# Altium schematic symbol library Schlib1.SchLib: 7 symbols
Pins are listed as number, name and electrical type; pins without a type are passive.

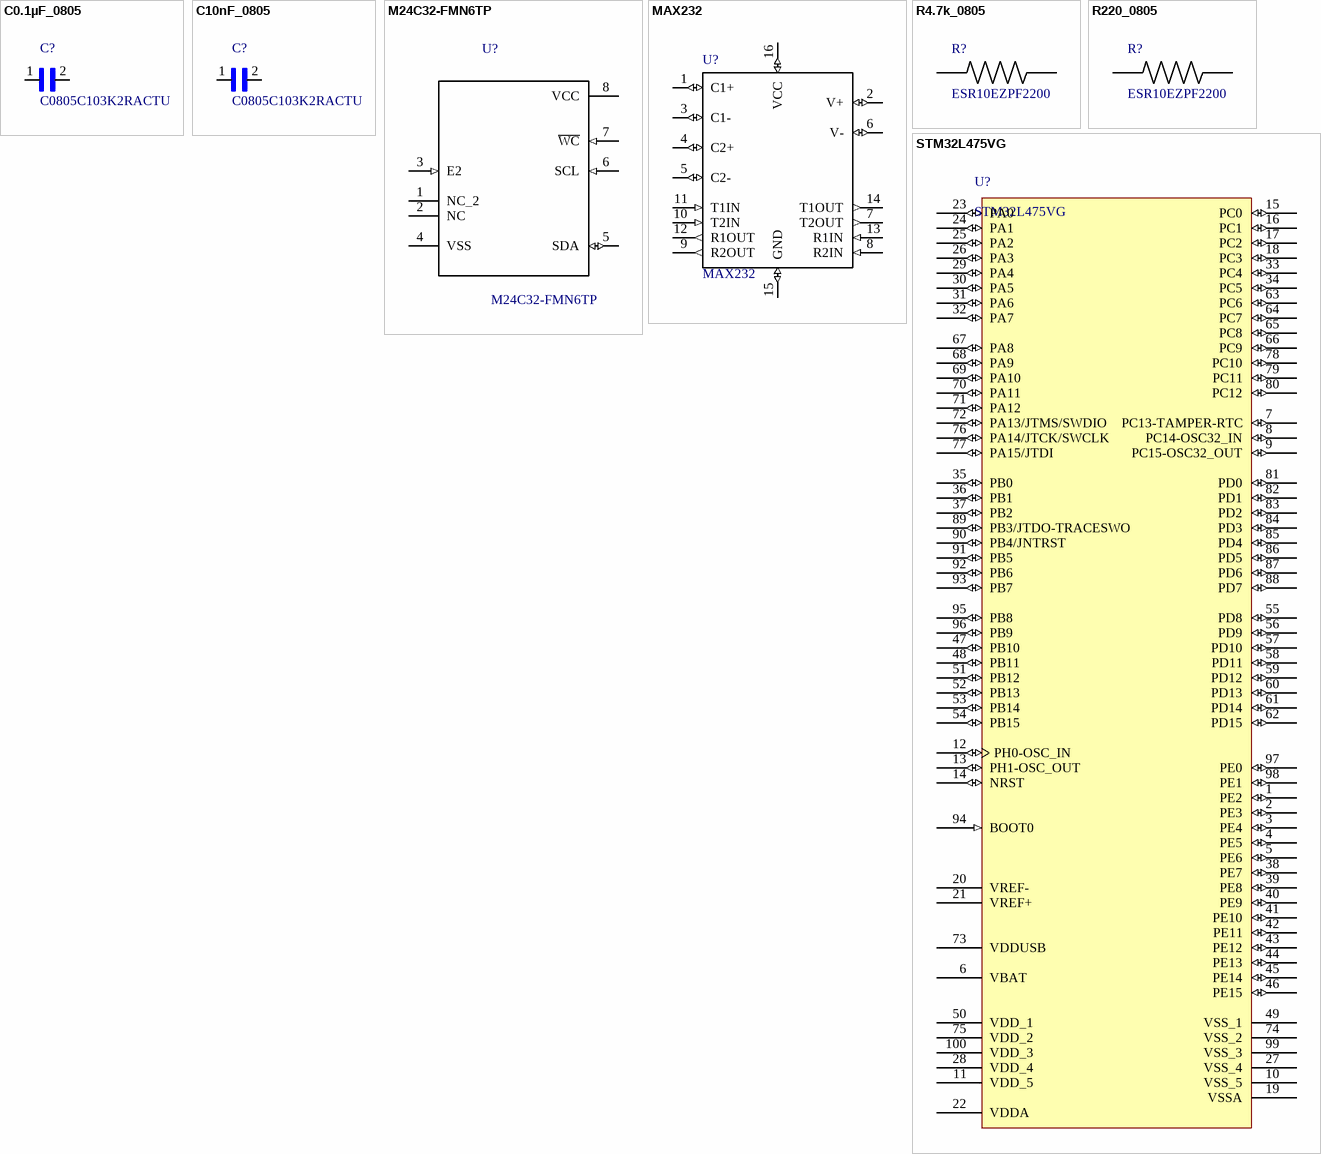
[diagram p0: symbols C0.1µF_0805 to STM32L475VG]

## C0.1µF_0805
designator C?, comment C0805C103K2RACTU
0805 C 10nF Ceramic Multilayer Capacitor, 200 VDC, +125degC, X7R Dielec, +/-10%; MF: KEMET; Digi-Key_Part_Number: 399-7993-1-ND; SnapEDA_Link: https://www.snapeda.com/parts/C0805C103K2RACTU/KEMET/view-part/?ref=snap; Package: 2012 KEMET; MP: C0805C103K2RACTU; Digi-Key_Purchase_URL: https://www.digikey.com/product-detail/en/kemet/C0805C103K2RACTU/399-7993-1-ND/3471716?utm_source=snapeda&utm_medium=aggregator&utm_campaign=symbol; Value: *
footprint *CAPC2012X88N
footprint *CAPC2012X88N
pins: 1, 2

## C10nF_0805
designator C?, comment C0805C103K2RACTU
0805 C 10nF Ceramic Multilayer Capacitor, 200 VDC, +125degC, X7R Dielec, +/-10%; MF: KEMET; Digi-Key_Part_Number: 399-7993-1-ND; SnapEDA_Link: https://www.snapeda.com/parts/C0805C103K2RACTU/KEMET/view-part/?ref=snap; Package: 2012 KEMET; MP: C0805C103K2RACTU; Digi-Key_Purchase_URL: https://www.digikey.com/product-detail/en/kemet/C0805C103K2RACTU/399-7993-1-ND/3471716?utm_source=snapeda&utm_medium=aggregator&utm_campaign=symbol; Value: *
footprint *CAPC2012X88N
footprint *CAPC2012X88N
pins: 1, 2

## M24C32-FMN6TP
designator U?
EEPROM Serial-I2C 32K-bit 4K x 8 1.8V/2.5V/3.3V/5V 8-Pin SOIC T/R; MF: STMicroelectronics; Package: SO-8 STMicroelectronics; MP: M24C32-FMN6TP; SnapEDA_Link: https://www.snapeda.com/parts/M24C32-FMN6TP/STMicroelectronics/view-part/?ref=snap; Digi-Key_Part_Number: 497-15758-1-ND; Digi-Key_Purchase_URL: https://www.digikey.com/product-detail/en/stmicroelectronics/M24C32-FMN6TP/497-15758-1-ND/5283322?utm_source=snapeda&utm_medium=aggregator&utm_campaign=symbol; Value: *
footprint *SOIC127P600X175-8N
pins: 1 NC_2, 2 NC, 3 E2 (in), 4 VSS, 5 SDA (io), 6 SCL (in), 7 ~{WC} (in), 8 VCC (power)

## MAX232
designator U?
Expansion board; D-Sub 9pin; In the set: prototype board; MF: Texas Instruments; Package: SOIC-16 Texas Instruments; MP: MAX232; SnapEDA_Link: https://www.snapeda.com/parts/MAX232/Texas%20Instruments/view-part/?ref=snap; Price: None; Availability: Unavailable; Value: *
footprint *SO016
pins: 1 C1+ (io), 2 V+ (io), 3 C1- (io), 4 C2+ (io), 5 C2- (io), 6 V- (io), 7 T2OUT (out), 8 R2IN (in), 9 R2OUT (out), 10 T2IN (in), 11 T1IN (in), 12 R1OUT (out), 13 R1IN (in), 14 T1OUT (out), 15 GND (io), 16 VCC (io)

## R4.7k_0805
designator R?, comment ESR10EZPF2200
/ ESR Series 0805 220 O Â±1 % 0.4 W Â±100 ppm/Â°C SMT Anti-Surge Chip Resistor /; MF: Rohm; Digi-Key_Part_Number: RHM220AECT-ND; SnapEDA_Link: https://www.snapeda.com/parts/ESR10EZPF2200/Rohm/view-part/?ref=snap; Package: 2012 Rohm Semiconductor; MP: ESR10EZPF2200; Digi-Key_Purchase_URL: https://www.digikey.com/product-detail/en/rohm-semiconductor/ESR10EZPF2200/RHM220AECT-ND/1983835?utm_source=snapeda&utm_medium=aggregator&utm_campaign=symbol; Value: *
footprint *RESC2012X65N
footprint *RESC2012X65N
footprint *RESC2012X65N
pins: 1, 2

## R220_0805
designator R?, comment ESR10EZPF2200
/ ESR Series 0805 220 O Â±1 % 0.4 W Â±100 ppm/Â°C SMT Anti-Surge Chip Resistor /; MF: Rohm; Digi-Key_Part_Number: RHM220AECT-ND; SnapEDA_Link: https://www.snapeda.com/parts/ESR10EZPF2200/Rohm/view-part/?ref=snap; Package: 2012 Rohm Semiconductor; MP: ESR10EZPF2200; Digi-Key_Purchase_URL: https://www.digikey.com/product-detail/en/rohm-semiconductor/ESR10EZPF2200/RHM220AECT-ND/1983835?utm_source=snapeda&utm_medium=aggregator&utm_campaign=symbol; Value: *
footprint *RESC2012X65N
footprint *RESC2012X65N
pins: 1, 2

## STM32L475VG
designator U?
STM32 ARM-based 32-bit MCU with 1 Mbyte Flash, 100-pin LQFP; Published: 01-JUILLET-2018; DatasheetVersion: Juillet 2018Mar-2008; PackageVersion: JUI-2018; PackageReference: LQFP100; Publisher: Altium Limited; PackageDescription: 100-Pin Low-Profile Quad Flat Pack, 14 x 14 mm Body, 0.5 mm Pitch (LQFP100); ComponentLink1Description: Manufacturer Link; ComponentLink1URL: www.st.com/stm32; ComponentLink2Description: Datasheet; ComponentLink2URL: https://www.st.com/resource/en/datasheet/stm32l475vg.pdf
footprint LQFP100_L (Thin QFP, 100-Leads, Body 14x14mm, Pitch 0.5mm, IPC High Density)
footprint LQFP100_M (Thin QFP, 100-Leads, Body 14x14mm, Pitch 0.5mm, IPC Low Density)
footprint LQFP100_N (Thin QFP, 100-Leads, Body 14x14mm, Pitch 0.5mm, IPC Medium Density)
footprint LQFP100_M (Thin QFP, 100-Leads, Body 14x14mm, Pitch 0.5mm, IPC Low Density)
pins: 1 PE2 (io), 2 PE3 (io), 3 PE4 (io), 4 PE5 (io), 5 PE6 (io), 6 VBAT (power), 7 PC13-TAMPER-RTC (io), 8 PC14-OSC32_IN (io), 9 PC15-OSC32_OUT (io), 10 VSS_5 (power), 11 VDD_5 (power), 12 PH0-OSC_IN (io), 13 PH1-OSC_OUT (io), 14 NRST (io), 15 PC0 (io), 16 PC1 (io), 17 PC2 (io), 18 PC3 (io), 19 VSSA (power), 20 VREF- (power), 21 VREF+ (power), 22 VDDA (power), 23 PA0 (io), 24 PA1 (io), 25 PA2 (io), 26 PA3 (io), 27 VSS_4 (power), 28 VDD_4 (power), 29 PA4 (io), 30 PA5 (io), 31 PA6 (io), 32 PA7 (io), 33 PC4 (io), 34 PC5 (io), 35 PB0 (io), 36 PB1 (io), 37 PB2 (io), 38 PE7 (io), 39 PE8 (io), 40 PE9 (io), 41 PE10 (io), 42 PE11 (io), 43 PE12 (io), 44 PE13 (io), 45 PE14 (io), 46 PE15 (io), 47 PB10 (io), 48 PB11 (io), 49 VSS_1 (power), 50 VDD_1 (power), 51 PB12 (io), 52 PB13 (io), 53 PB14 (io), 54 PB15 (io), 55 PD8 (io), 56 PD9 (io), 57 PD10 (io), 58 PD11 (io), 59 PD12 (io), 60 PD13 (io), 61 PD14 (io), 62 PD15 (io), 63 PC6 (io), 64 PC7 (io), 65 PC8 (io), 66 PC9 (io), 67 PA8 (io), 68 PA9 (io), 69 PA10 (io), 70 PA11 (io), 71 PA12 (io), 72 PA13/JTMS/SWDIO (io), 73 VDDUSB, 74 VSS_2 (power), 75 VDD_2 (power), 76 PA14/JTCK/SWCLK (io), 77 PA15/JTDI (io), 78 PC10 (io), 79 PC11 (io), 80 PC12 (io), 81 PD0 (io), 82 PD1 (io), 83 PD2 (io), 84 PD3 (io), 85 PD4 (io), 86 PD5 (io), 87 PD6 (io), 88 PD7 (io), 89 PB3/JTDO-TRACESWO (io), 90 PB4/JNTRST (io), 91 PB5 (io), 92 PB6 (io), 93 PB7 (io), 94 BOOT0 (in), 95 PB8 (io), 96 PB9 (io), 97 PE0 (io), 98 PE1 (io), 99 VSS_3 (power), 100 VDD_3 (power)